# Altium integrated library pal.IntLib: 45 symbols
Pins are listed as number, name and electrical type; pins without a type are passive.

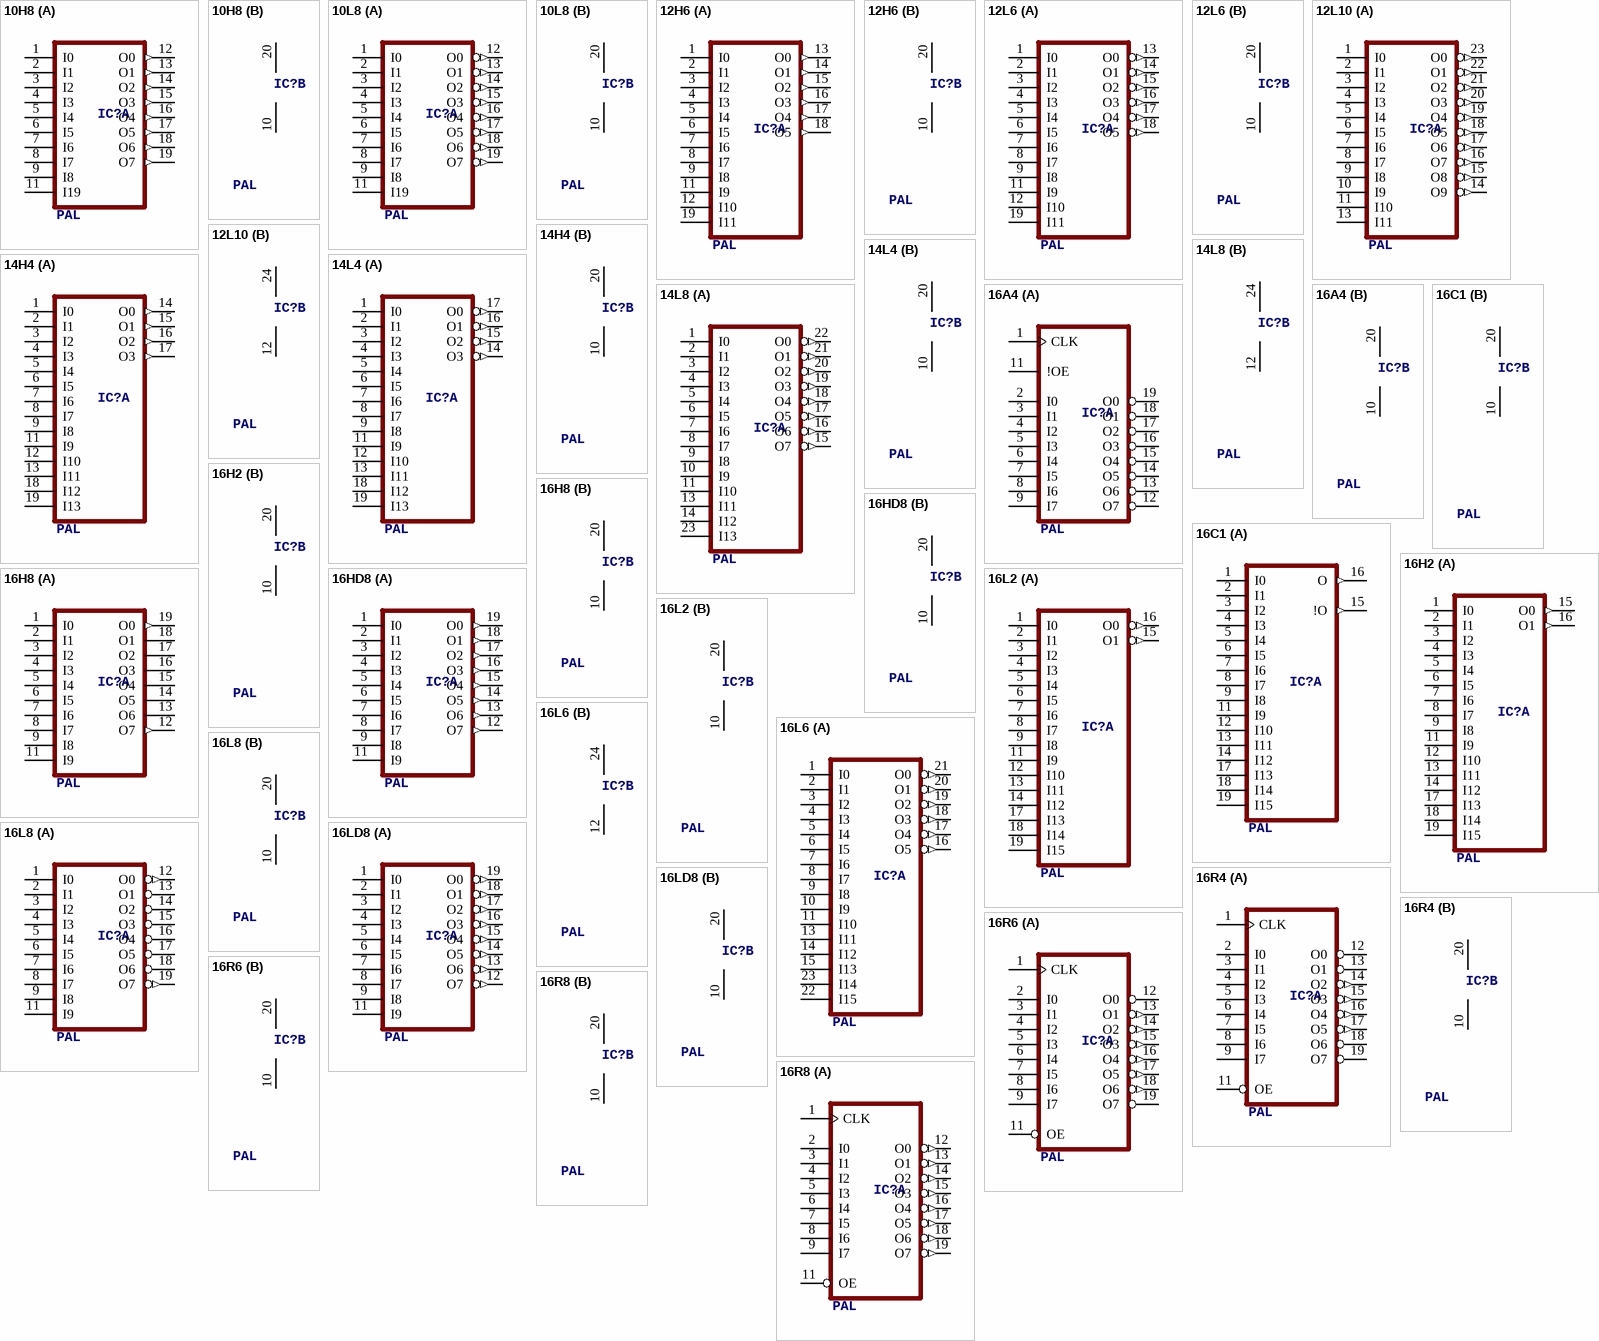
[diagram p0: symbols 10H8 to 16R8]

## 10H8
designator IC?, comment PAL
OC_FARNELL: unknown; OC_NEWARK: unknown
footprint DIL20
part A pins: 1 I0, 2 I1, 3 I2, 4 I3, 5 I4, 6 I5, 7 I6, 8 I7, 9 I8, 11 I19, 12 O0 (out), 13 O1 (out), 14 O2 (out), 15 O3 (out), 16 O4 (out), 17 O5 (out), 18 O6 (out), 19 O7 (out)
part B pins: 10 GND (power), 20 VCC (power)

## 10L8
designator IC?, comment PAL
OC_FARNELL: unknown; OC_NEWARK: unknown
footprint DIL20
part A pins: 1 I0, 2 I1, 3 I2, 4 I3, 5 I4, 6 I5, 7 I6, 8 I7, 9 I8, 11 I19, 12 O0 (out), 13 O1 (out), 14 O2 (out), 15 O3 (out), 16 O4 (out), 17 O5 (out), 18 O6 (out), 19 O7 (out)
part B pins: 10 GND (power), 20 VCC (power)

## 12H6
designator IC?, comment PAL
OC_FARNELL: unknown; OC_NEWARK: unknown
footprint DIL20
part A pins: 1 I0, 2 I1, 3 I2, 4 I3, 5 I4, 6 I5, 7 I6, 8 I7, 9 I8, 11 I9, 12 I10, 13 O0 (out), 14 O1 (out), 15 O2 (out), 16 O3 (out), 17 O4 (out), 18 O5 (out), 19 I11
part B pins: 10 GND (power), 20 VCC (power)

## 12L6
designator IC?, comment PAL
OC_FARNELL: unknown; OC_NEWARK: unknown
footprint DIL20
part A pins: 1 I0, 2 I1, 3 I2, 4 I3, 5 I4, 6 I5, 7 I6, 8 I7, 9 I8, 11 I9, 12 I10, 13 O0 (out), 14 O1 (out), 15 O2 (out), 16 O3 (out), 17 O4 (out), 18 O5 (out), 19 I11
part B pins: 10 GND (power), 20 VCC (power)

## 12L10
designator IC?, comment PAL
OC_FARNELL: unknown; OC_NEWARK: unknown
footprint DIL24-3
part A pins: 1 I0, 2 I1, 3 I2, 4 I3, 5 I4, 6 I5, 7 I6, 8 I7, 9 I8, 10 I9, 11 I10, 13 I11, 14 O9 (out), 15 O8 (out), 16 O7 (out), 17 O6 (out), 18 O5 (out), 19 O4 (out), 20 O3 (out), 21 O2 (out), 22 O1 (out), 23 O0 (out)
part B pins: 12 GND (power), 24 VCC (power)

## 14H4
designator IC?, comment PAL
OC_FARNELL: unknown; OC_NEWARK: unknown
footprint DIL20
part A pins: 1 I0, 2 I1, 3 I2, 4 I3, 5 I4, 6 I5, 7 I6, 8 I7, 9 I8, 11 I9, 12 I10, 13 I11, 14 O0 (out), 15 O1 (out), 16 O2 (out), 17 O3 (out), 18 I12, 19 I13
part B pins: 10 GND (power), 20 VCC (power)

## 14L4
designator IC?, comment PAL
OC_FARNELL: unknown; OC_NEWARK: unknown
footprint DIL20
part A pins: 1 I0, 2 I1, 3 I2, 4 I3, 5 I4, 6 I5, 7 I6, 8 I7, 9 I8, 11 I9, 12 I10, 13 I11, 14 O3 (out), 15 O2 (out), 16 O1 (out), 17 O0 (out), 18 I12, 19 I13
part B pins: 10 GND (power), 20 VCC (power)

## 14L8
designator IC?, comment PAL
OC_FARNELL: unknown; OC_NEWARK: unknown
footprint DIL24-3
part A pins: 1 I0, 2 I1, 3 I2, 4 I3, 5 I4, 6 I5, 7 I6, 8 I7, 9 I8, 10 I9, 11 I10, 13 I11, 14 I12, 15 O7 (out), 16 O6 (out), 17 O5 (out), 18 O4 (out), 19 O3 (out), 20 O2 (out), 21 O1 (out), 22 O0 (out), 23 I13
part B pins: 12 GND (power), 24 VCC (power)

## 16A4
designator IC?, comment PAL
OC_FARNELL: unknown; OC_NEWARK: unknown
footprint DIL20
part A pins: 1 CLK, 2 I0, 3 I1, 4 I2, 5 I3, 6 I4, 7 I5, 8 I6, 9 I7, 11 !OE, 12 O7, 13 O6, 14 O5 (hiz), 15 O4 (hiz), 16 O3 (hiz), 17 O2 (hiz), 18 O1, 19 O0
part B pins: 10 GND (power), 20 VCC (power)

## 16C1
designator IC?, comment PAL
OC_FARNELL: unknown; OC_NEWARK: unknown
footprint DIL20
part A pins: 1 I0, 2 I1, 3 I2, 4 I3, 5 I4, 6 I5, 7 I6, 8 I7, 9 I8, 11 I9, 12 I10, 13 I11, 14 I12, 15 !O (out), 16 O (out), 17 I13, 18 I14, 19 I15
part B pins: 10 GND (power), 20 VCC (power)

## 16H2
designator IC?, comment PAL
OC_FARNELL: unknown; OC_NEWARK: unknown
footprint DIL20
part A pins: 1 I0, 2 I1, 3 I2, 4 I3, 5 I4, 6 I5, 7 I6, 8 I7, 9 I8, 11 I9, 12 I10, 13 I11, 14 I12, 15 O0 (out), 16 O1 (out), 17 I13, 18 I14, 19 I15
part B pins: 10 GND (power), 20 VCC (power)

## 16H8
designator IC?, comment PAL
OC_FARNELL: unknown; OC_NEWARK: unknown
footprint DIL20
part A pins: 1 I0, 2 I1, 3 I2, 4 I3, 5 I4, 6 I5, 7 I6, 8 I7, 9 I8, 11 I9, 12 O7 (out), 13 O6 (hiz), 14 O5 (hiz), 15 O4 (hiz), 16 O3 (hiz), 17 O2 (hiz), 18 O1 (hiz), 19 O0 (out)
part B pins: 10 GND (power), 20 VCC (power)

## 16HD8
designator IC?, comment PAL
OC_FARNELL: unknown; OC_NEWARK: unknown
footprint DIL20
part A pins: 1 I0, 2 I1, 3 I2, 4 I3, 5 I4, 6 I5, 7 I6, 8 I7, 9 I8, 11 I9, 12 O7 (out), 13 O6 (out), 14 O5 (out), 15 O4 (out), 16 O3 (out), 17 O2 (out), 18 O1 (out), 19 O0 (out)
part B pins: 10 GND (power), 20 VCC (power)

## 16L2
designator IC?, comment PAL
OC_FARNELL: unknown; OC_NEWARK: unknown
footprint DIL20
part A pins: 1 I0, 2 I1, 3 I2, 4 I3, 5 I4, 6 I5, 7 I6, 8 I7, 9 I8, 11 I9, 12 I10, 13 I11, 14 I12, 15 O1 (out), 16 O0 (out), 17 I13, 18 I14, 19 I15
part B pins: 10 GND (power), 20 VCC (power)

## 16L6
designator IC?, comment PAL
OC_FARNELL: unknown; OC_NEWARK: unknown
footprint DIL24-3
part A pins: 1 I0, 2 I1, 3 I2, 4 I3, 5 I4, 6 I5, 7 I6, 8 I7, 9 I8, 10 I9, 11 I10, 13 I11, 14 I12, 15 I13, 16 O5 (out), 17 O4 (out), 18 O3 (out), 19 O2 (out), 20 O1 (out), 21 O0 (out), 22 I15, 23 I14
part B pins: 12 GND (power), 24 VCC (power)

## 16L8
designator IC?, comment PAL
MPN: TIBPAL16L8-7CN; MF: TEXAS INSTRUMENTS; OC_FARNELL: 1510033; OC_NEWARK: 08F8522
footprint DIL20
part A pins: 1 I0, 2 I1, 3 I2, 4 I3, 5 I4, 6 I5, 7 I6, 8 I7, 9 I8, 11 I9, 12 O0 (out), 13 O1, 14 O2, 15 O3, 16 O4, 17 O5, 18 O6, 19 O7 (out)
part B pins: 10 GND (power), 20 VCC (power)

## 16LD8
designator IC?, comment PAL
OC_FARNELL: unknown; OC_NEWARK: unknown
footprint DIL20
part A pins: 1 I0, 2 I1, 3 I2, 4 I3, 5 I4, 6 I5, 7 I6, 8 I7, 9 I8, 11 I9, 12 O7 (out), 13 O6 (out), 14 O5 (out), 15 O4 (out), 16 O3 (out), 17 O2 (out), 18 O1 (out), 19 O0 (out)
part B pins: 10 GND (power), 20 VCC (power)

## 16R4
designator IC?, comment PAL
MPN: TIBPAL16R4-10CN; MF: TEXAS INSTRUMENTS; OC_FARNELL: 1753788; OC_NEWARK: 08F8524
footprint DIL20
part A pins: 1 CLK, 2 I0, 3 I1, 4 I2, 5 I3, 6 I4, 7 I5, 8 I6, 9 I7, 11 OE, 12 O0, 13 O1, 14 O2 (out), 15 O3 (out), 16 O4 (out), 17 O5 (out), 18 O6, 19 O7
part B pins: 10 GND (power), 20 VCC (power)

## 16R6
designator IC?, comment PAL
MPN: TIBPAL16R6-10CN; OC_FARNELL: 1753789; OC_NEWARK: 90R9355
footprint DIL20
part A pins: 1 CLK, 2 I0, 3 I1, 4 I2, 5 I3, 6 I4, 7 I5, 8 I6, 9 I7, 11 OE, 12 O0, 13 O1 (out), 14 O2 (out), 15 O3 (out), 16 O4 (out), 17 O5 (out), 18 O6 (out), 19 O7
part B pins: 10 GND (power), 20 VCC (power)

## 16R8
designator IC?, comment PAL
OC_FARNELL: unknown; OC_NEWARK: unknown
footprint DIL20
part A pins: 1 CLK, 2 I0, 3 I1, 4 I2, 5 I3, 6 I4, 7 I5, 8 I6, 9 I7, 11 OE, 12 O0 (out), 13 O1 (out), 14 O2 (out), 15 O3 (out), 16 O4 (out), 17 O5 (out), 18 O6 (out), 19 O7 (out)
part B pins: 10 GND (power), 20 VCC (power)

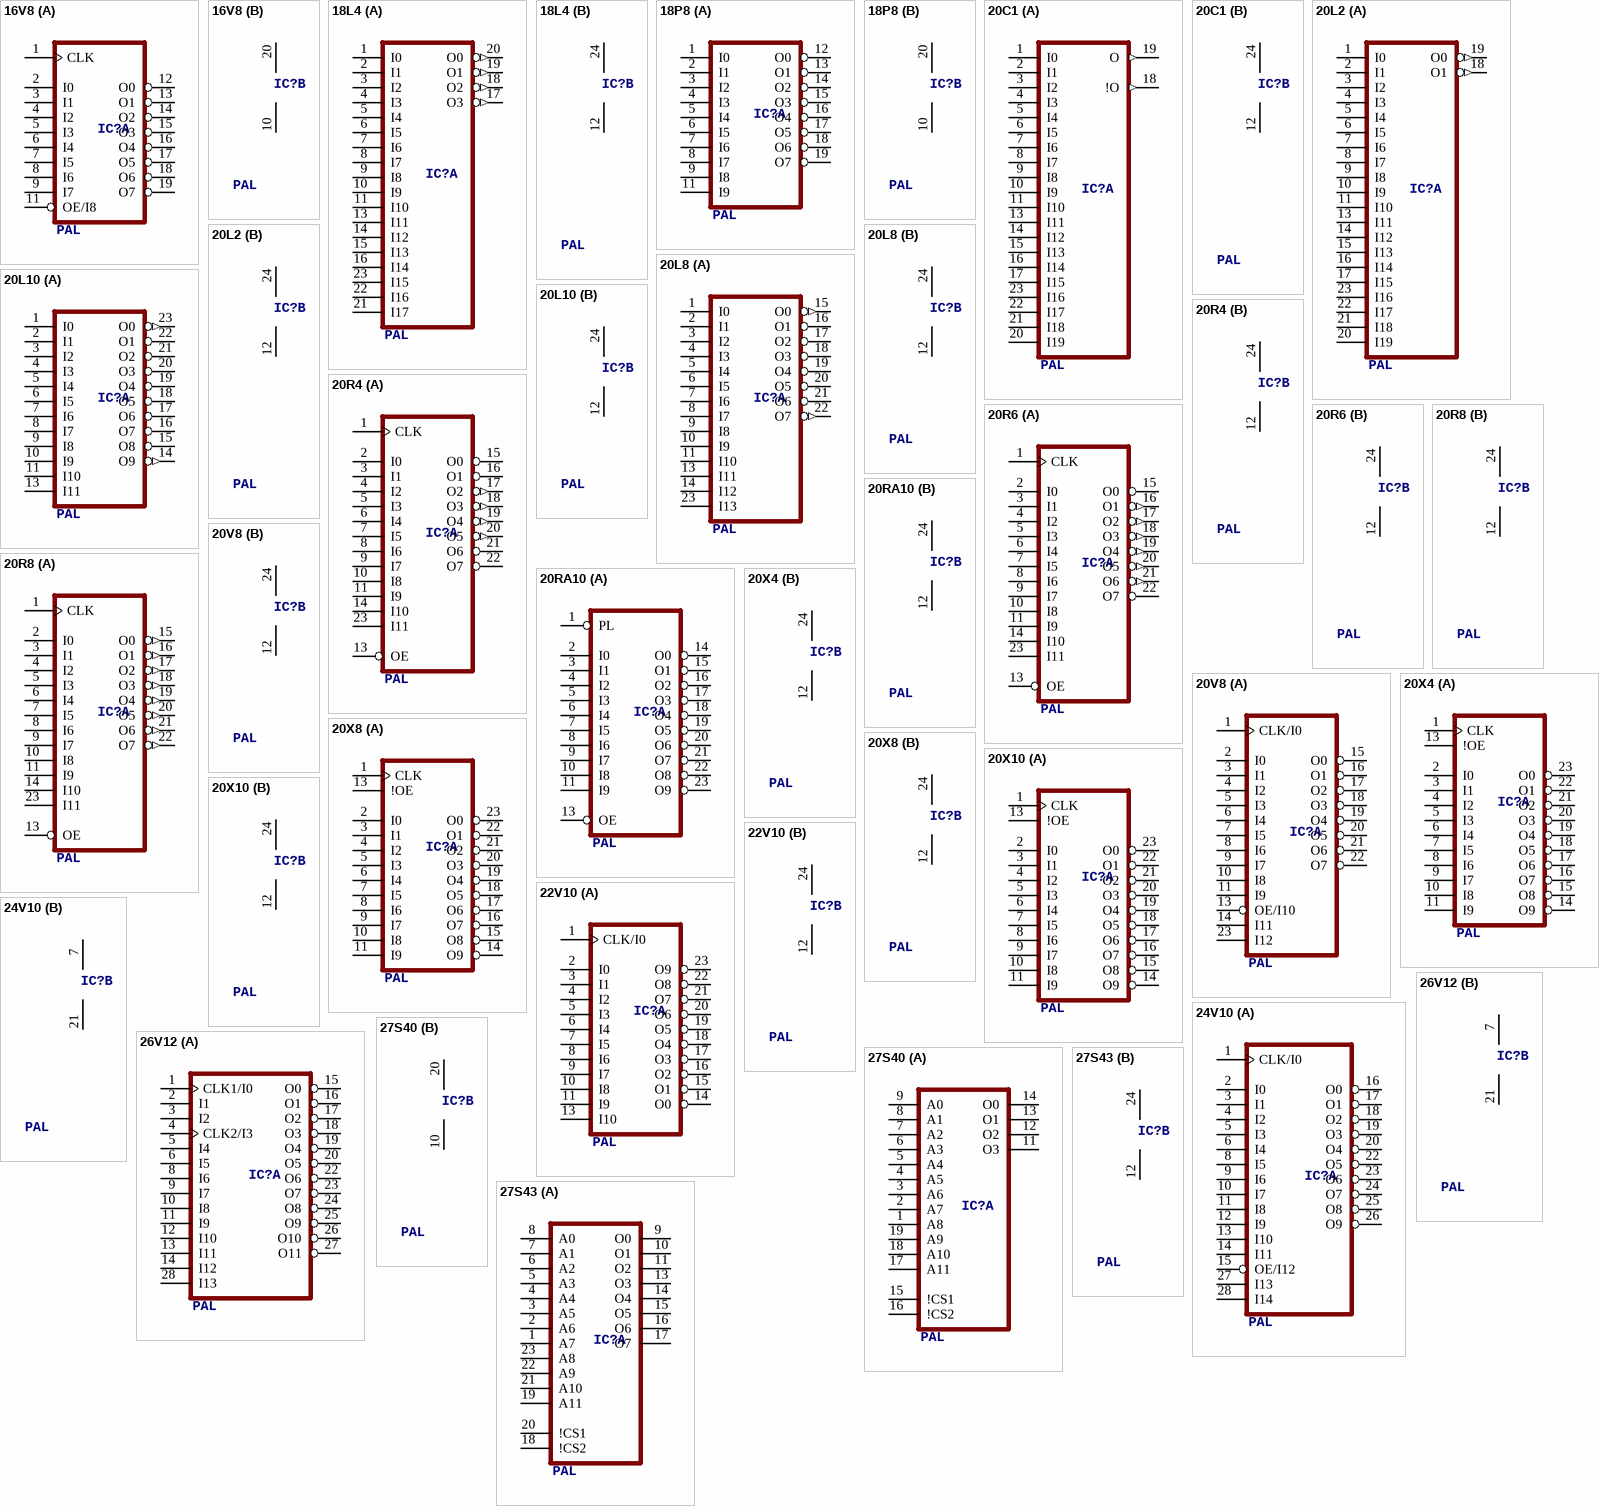
[diagram p1: symbols 16V8 to 27S43]

## 16V8
designator IC?, comment PAL
MPN: GAL16V8D-7LPN; OC_FARNELL: 9699740; OC_NEWARK: 97K0449
footprint DIL20
part A pins: 1 CLK, 2 I0, 3 I1, 4 I2, 5 I3, 6 I4, 7 I5, 8 I6, 9 I7, 11 OE/I8, 12 O0, 13 O1, 14 O2, 15 O3, 16 O4, 17 O5, 18 O6, 19 O7
part B pins: 10 GND (power), 20 VCC (power)

## 18L4
designator IC?, comment PAL
OC_FARNELL: unknown; OC_NEWARK: unknown
footprint DIL24-3
part A pins: 1 I0, 2 I1, 3 I2, 4 I3, 5 I4, 6 I5, 7 I6, 8 I7, 9 I8, 10 I9, 11 I10, 13 I11, 14 I12, 15 I13, 16 I14, 17 O3 (out), 18 O2 (out), 19 O1 (out), 20 O0 (out), 21 I17, 22 I16, 23 I15
part B pins: 12 GND (power), 24 VCC (power)

## 18P8
designator IC?, comment PAL
OC_FARNELL: unknown; OC_NEWARK: unknown
footprint DIL20
part A pins: 1 I0, 2 I1, 3 I2, 4 I3, 5 I4, 6 I5, 7 I6, 8 I7, 9 I8, 11 I9, 12 O0, 13 O1, 14 O2, 15 O3, 16 O4, 17 O5, 18 O6, 19 O7
part B pins: 10 GND (power), 20 VCC (power)

## 20C1
designator IC?, comment PAL
OC_FARNELL: unknown; OC_NEWARK: unknown
footprint DIL24-3
part A pins: 1 I0, 2 I1, 3 I2, 4 I3, 5 I4, 6 I5, 7 I6, 8 I7, 9 I8, 10 I9, 11 I10, 13 I11, 14 I12, 15 I13, 16 I14, 17 I15, 18 !O (out), 19 O (out), 20 I19, 21 I18, 22 I17, 23 I16
part B pins: 12 GND (power), 24 VCC (power)

## 20L2
designator IC?, comment PAL
OC_FARNELL: unknown; OC_NEWARK: unknown
footprint DIL24-3
part A pins: 1 I0, 2 I1, 3 I2, 4 I3, 5 I4, 6 I5, 7 I6, 8 I7, 9 I8, 10 I9, 11 I10, 13 I11, 14 I12, 15 I13, 16 I14, 17 I15, 18 O1 (out), 19 O0 (out), 20 I19, 21 I18, 22 I17, 23 I16
part B pins: 12 GND (power), 24 VCC (power)

## 20L8
designator IC?, comment PAL
MPN: TIBPAL20L8-15CNT; OC_FARNELL: 1528565; OC_NEWARK: 61M2759
footprint DIL24-3
part A pins: 1 I0, 2 I1, 3 I2, 4 I3, 5 I4, 6 I5, 7 I6, 8 I7, 9 I8, 10 I9, 11 I10, 13 I11, 14 I12, 15 O0 (out), 16 O1, 17 O2, 18 O3, 19 O4, 20 O5, 21 O6, 22 O7 (out), 23 I13
part B pins: 12 GND (power), 24 VCC (power)

## 20L10
designator IC?, comment PAL
OC_FARNELL: unknown; OC_NEWARK: unknown
footprint DIL24-3
part A pins: 1 I0, 2 I1, 3 I2, 4 I3, 5 I4, 6 I5, 7 I6, 8 I7, 9 I8, 10 I9, 11 I10, 13 I11, 14 O9 (out), 15 O8, 16 O7, 17 O6, 18 O5, 19 O4, 20 O3, 21 O2, 22 O1, 23 O0 (out)
part B pins: 12 GND (power), 24 VCC (power)

## 20R4
designator IC?, comment PAL
MPN: TIBPAL20R4-15CNT; MF: TEXAS INSTRUMENT CONNECTORS; OC_FARNELL: 1753792; OC_NEWARK: 08F8571
footprint DIL24-3
part A pins: 1 CLK, 2 I0, 3 I1, 4 I2, 5 I3, 6 I4, 7 I5, 8 I6, 9 I7, 10 I8, 11 I9, 13 OE, 14 I10, 15 O0, 16 O1, 17 O2 (out), 18 O3 (out), 19 O4 (out), 20 O5 (out), 21 O6, 22 O7, 23 I11
part B pins: 12 GND (power), 24 VCC (power)

## 20R6
designator IC?, comment PAL
MPN: TIBPAL20R6-5CNT; MF: TEXAS INSTRUMENT CONNECTORS; OC_FARNELL: 1753798; OC_NEWARK: 52F2718
footprint DIL24-3
part A pins: 1 CLK, 2 I0, 3 I1, 4 I2, 5 I3, 6 I4, 7 I5, 8 I6, 9 I7, 10 I8, 11 I9, 13 OE, 14 I10, 15 O0, 16 O1 (out), 17 O2 (out), 18 O3 (out), 19 O4 (out), 20 O5 (out), 21 O6 (out), 22 O7, 23 I11
part B pins: 12 GND (power), 24 VCC (power)

## 20R8
designator IC?, comment PAL
MPN: TIBPAL20R8-7CNT; MF: TEXAS INSTRUMENT CONNECTORS; OC_FARNELL: 1753803; OC_NEWARK: 08F8592
footprint DIL24-3
part A pins: 1 CLK, 2 I0, 3 I1, 4 I2, 5 I3, 6 I4, 7 I5, 8 I6, 9 I7, 10 I8, 11 I9, 13 OE, 14 I10, 15 O0 (out), 16 O1 (out), 17 O2 (out), 18 O3 (out), 19 O4 (out), 20 O5 (out), 21 O6 (out), 22 O7 (out), 23 I11
part B pins: 12 GND (power), 24 VCC (power)

## 20RA10
designator IC?, comment PAL
MPN: GAL20RA10B-20LP; MF: FARNELL; OC_FARNELL: 3327425; OC_NEWARK: 70C8542
footprint DIL24-3
part A pins: 1 PL, 2 I0, 3 I1, 4 I2, 5 I3, 6 I4, 7 I5, 8 I6, 9 I7, 10 I8, 11 I9, 13 OE, 14 O0, 15 O1, 16 O2, 17 O3, 18 O4, 19 O5, 20 O6, 21 O7, 22 O8, 23 O9
part B pins: 12 GND (power), 24 VCC (power)

## 20V8
designator IC?, comment PAL
MPN: GAL20V8B-25QP; MF: FARNELL; OC_FARNELL: 3327462; OC_NEWARK: 70C8546
footprint DIL24-3
part A pins: 1 CLK/I0, 2 I0, 3 I1, 4 I2, 5 I3, 6 I4, 7 I5, 8 I6, 9 I7, 10 I8, 11 I9, 13 OE/I10, 14 I11, 15 O0, 16 O1, 17 O2, 18 O3, 19 O4, 20 O5, 21 O6, 22 O7, 23 I12
part B pins: 12 GND (power), 24 VCC (power)

## 20X4
designator IC?, comment PAL
OC_FARNELL: unknown; OC_NEWARK: unknown
footprint DIL24-3
part A pins: 1 CLK, 2 I0, 3 I1, 4 I2, 5 I3, 6 I4, 7 I5, 8 I6, 9 I7, 10 I8, 11 I9, 13 !OE, 14 O9, 15 O8, 16 O7, 17 O6 (hiz), 18 O5 (hiz), 19 O4 (hiz), 20 O3 (hiz), 21 O2, 22 O1, 23 O0
part B pins: 12 GND (power), 24 VCC (power)

## 20X8
designator IC?, comment PAL
OC_FARNELL: unknown; OC_NEWARK: unknown
footprint DIL24-3
part A pins: 1 CLK, 2 I0, 3 I1, 4 I2, 5 I3, 6 I4, 7 I5, 8 I6, 9 I7, 10 I8, 11 I9, 13 !OE, 14 O9, 15 O8 (hiz), 16 O7 (hiz), 17 O6 (hiz), 18 O5 (hiz), 19 O4 (hiz), 20 O3 (hiz), 21 O2 (hiz), 22 O1 (hiz), 23 O0
part B pins: 12 GND (power), 24 VCC (power)

## 20X10
designator IC?, comment PAL
OC_FARNELL: unknown; OC_NEWARK: unknown
footprint DIL24-3
part A pins: 1 CLK, 2 I0, 3 I1, 4 I2, 5 I3, 6 I4, 7 I5, 8 I6, 9 I7, 10 I8, 11 I9, 13 !OE, 14 O9 (hiz), 15 O8 (hiz), 16 O7 (hiz), 17 O6 (hiz), 18 O5 (hiz), 19 O4 (hiz), 20 O3 (hiz), 21 O2 (hiz), 22 O1 (hiz), 23 O0 (hiz)
part B pins: 12 GND (power), 24 VCC (power)

## 22V10
designator IC?, comment PAL
MPN: GAL22V10D-7LPN; OC_FARNELL: 1571925; OC_NEWARK: 97M0480
footprint DIL24-3
part A pins: 1 CLK/I0, 2 I0, 3 I1, 4 I2, 5 I3, 6 I4, 7 I5, 8 I6, 9 I7, 10 I8, 11 I9, 13 I10, 14 O0, 15 O1, 16 O2, 17 O3, 18 O4, 19 O5, 20 O6, 21 O7, 22 O8, 23 O9
part B pins: 12 GND (power), 24 VCC (power)

## 24V10
designator IC?, comment PAL
OC_FARNELL: unknown; OC_NEWARK: unknown
footprint DIL28-3
part A pins: 1 CLK/I0, 2 I0, 3 I1, 4 I2, 5 I3, 6 I4, 8 I5, 9 I6, 10 I7, 11 I8, 12 I9, 13 I10, 14 I11, 15 OE/I12, 16 O0, 17 O1, 18 O2, 19 O3, 20 O4, 22 O5, 23 O6, 24 O7, 25 O8, 26 O9, 27 I13, 28 I14
part B pins: 7 VCC (power), 21 GND (power)

## 26V12
designator IC?, comment PAL
OC_FARNELL: unknown; OC_NEWARK: unknown
footprint DIL28-3
part A pins: 1 CLK1/I0, 2 I1, 3 I2, 4 CLK2/I3, 5 I4, 6 I5, 8 I6, 9 I7, 10 I8, 11 I9, 12 I10, 13 I11, 14 I12, 15 O0, 16 O1, 17 O2, 18 O3, 19 O4, 20 O5, 22 O6, 23 O7, 24 O8, 25 O9, 26 O10, 27 O11, 28 I13
part B pins: 7 VCC (power), 21 GND (power)

## 27S40
designator IC?, comment PAL
OC_FARNELL: unknown; OC_NEWARK: unknown
footprint DIL20
part A pins: 1 A8, 2 A7, 3 A6, 4 A5, 5 A4, 6 A3, 7 A2, 8 A1, 9 A0, 11 O3 (oc), 12 O2 (oc), 13 O1 (oc), 14 O0 (oc), 15 !CS1, 16 !CS2, 17 A11, 18 A10, 19 A9
part B pins: 10 GND (power), 20 VCC (power)

## 27S43
designator IC?, comment PAL
OC_FARNELL: unknown; OC_NEWARK: unknown
footprint DIL24-3
part A pins: 1 A7, 2 A6, 3 A5, 4 A4, 5 A3, 6 A2, 7 A1, 8 A0, 9 O0 (hiz), 10 O1 (hiz), 11 O2 (hiz), 13 O3 (hiz), 14 O4 (hiz), 15 O5 (hiz), 16 O6 (hiz), 17 O7 (hiz), 18 !CS2, 19 A11, 20 !CS1, 21 A10, 22 A9, 23 A8
part B pins: 12 GND (power), 24 VCC (power)

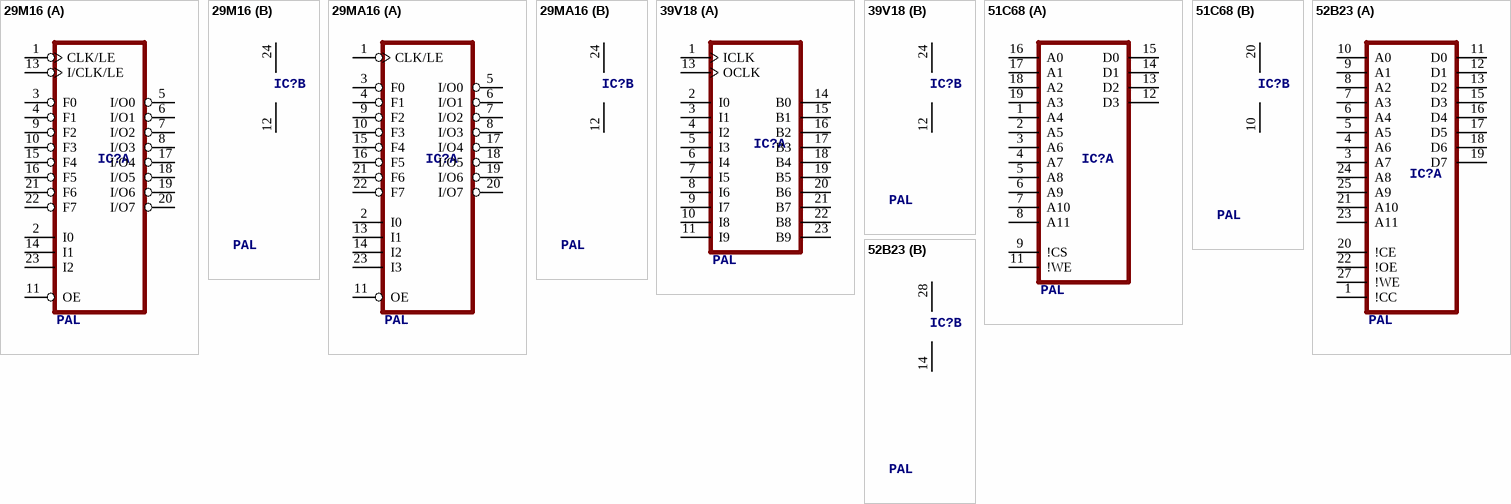
[diagram p2: symbols 29M16 to 52B23]

## 29M16
designator IC?, comment PAL
OC_FARNELL: unknown; OC_NEWARK: unknown
footprint DIL24-3
part A pins: 1 CLK/LE, 2 I0, 3 F0, 4 F1, 5 I/O0, 6 I/O1, 7 I/O2, 8 I/O3, 9 F2, 10 F3, 11 OE, 13 I/CLK/LE, 14 I1, 15 F4, 16 F5, 17 I/O4, 18 I/O5, 19 I/O6, 20 I/O7, 21 F6, 22 F7, 23 I2
part B pins: 12 GND (power), 24 VCC (power)

## 29MA16
designator IC?, comment PAL
OC_FARNELL: unknown; OC_NEWARK: unknown
footprint DIL24-3
part A pins: 1 CLK/LE, 2 I0, 3 F0, 4 F1, 5 I/O0, 6 I/O1, 7 I/O2, 8 I/O3, 9 F2, 10 F3, 11 OE, 13 I1, 14 I2, 15 F4, 16 F5, 17 I/O4, 18 I/O5, 19 I/O6, 20 I/O7, 21 F6, 22 F7, 23 I3
part B pins: 12 GND (power), 24 VCC (power)

## 39V18
designator IC?, comment PAL
OC_FARNELL: unknown; OC_NEWARK: unknown
footprint DIL24-3
part A pins: 1 ICLK, 2 I0, 3 I1, 4 I2, 5 I3, 6 I4, 7 I5, 8 I6, 9 I7, 10 I8, 11 I9, 13 OCLK, 14 B0, 15 B1, 16 B2, 17 B3, 18 B4, 19 B5, 20 B6, 21 B7, 22 B8, 23 B9
part B pins: 12 GND (power), 24 VCC (power)

## 51C68
designator IC?, comment PAL
OC_FARNELL: unknown; OC_NEWARK: unknown
footprint DIL20
part A pins: 1 A4, 2 A5, 3 A6, 4 A7, 5 A8, 6 A9, 7 A10, 8 A11, 9 !CS, 11 !WE, 12 D3 (hiz), 13 D2 (hiz), 14 D1 (hiz), 15 D0 (hiz), 16 A0, 17 A1, 18 A2, 19 A3
part B pins: 10 GND (power), 20 VCC (power)

## 52B23
designator IC?, comment PAL
OC_FARNELL: unknown; OC_NEWARK: unknown
footprint DIL28-3
part A pins: 1 !CC, 3 A7, 4 A6, 5 A5, 6 A4, 7 A3, 8 A2, 9 A1, 10 A0, 11 D0 (hiz), 12 D1 (hiz), 13 D2 (hiz), 15 D3 (hiz), 16 D4 (hiz), 17 D5 (hiz), 18 D6 (hiz), 19 D7 (hiz), 20 !CE, 21 A10, 22 !OE, 23 A11, 24 A8, 25 A9, 27 !WE
part B pins: 14 GND (power), 28 VCC (power)